# Altium footprint library Fuse.PcbLib: 3 footprints
Each footprint in its own frame and in the unit in brackets; x right, y up, seen from the top. Pads: shape width x height; smd on the part's side, far side on the other; paste and mask are expansions set on the pad; w line width, h text height; cw(c..) or ccw(c..) is an arc to the next point about the centre after c.
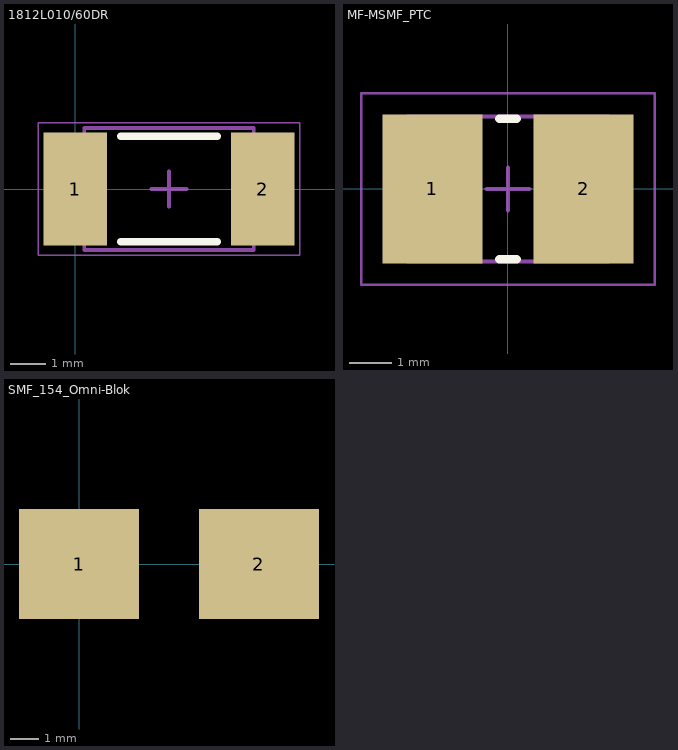
[diagram p0: the footprints below, top view; thin cyan lines are the x and y axes]

## 1812L010/60DR [mm] "POLY-FUSE 1812L Series"
height 2
pads (2):
  rect 1.78x3.15 smd: 1(0,0) 2(5.23,0)
Top Overlay:
  lines w0.2: 1.265,-1.475 3.965,-1.475 ; 1.265,1.475 3.965,1.475
Mechanical 13:
  lines w0.1: 0.25,-1.705 0.25,1.705 4.98,1.705 4.98,-1.705 0.25,-1.705
Mechanical 15:
  lines w0.05: -1.035,-1.85 -1.035,1.85 6.265,1.85 6.265,-1.85 -1.035,-1.85
  lines w0.1: 2.115,0 3.115,0 ; 2.615,-0.5 2.615,0.5
3D body: height 1.25, standoff 0, extent 0.251,-1.704 4.979,1.704

## MF-MSMF_PTC [mm] "can be used for all  MF-MSMF PTC resettable fusess"
height 0.85
pads (2):
  rect 2.35x3.5 smd: 1(-1.775,0) 2(1.775,0)
Top Overlay:
  lines w0.2: -0.2,-1.65 0.2,-1.65 ; -0.2,1.65 0.2,1.65
Mechanical 13:
  lines w0.1: -2.365,-1.705 2.365,-1.705 2.365,1.705 -2.365,1.705 -2.365,-1.705
Mechanical 15:
  lines w0.05: -3.45,-2.25 3.45,-2.25 3.45,2.25 -3.45,2.25 -3.45,-2.25
  lines w0.1: -0.5,0 0.5,0 ; 0,-0.5 0,0.5
3D body "MF-MSMF_PTC.step": height 0.85, standoff 0, extent -2.365,-1.705 2.365,1.705

## SMF_154_Omni-Blok [mm] "Fuse holder for litteluse nano2 fuses"
height 3.9
pads (2):
  rect 4.25x3.9 smd: 1(0,0) 2(6.37,0)
3D body "omni.stp": height 3.71, standoff 0.02, extent -1.816,-2.515 8.166,2.515